# Altium schematic symbol library Touch Sense.SchLib: 1 symbol
Pins are listed as number, name and electrical type; pins without a type are passive.

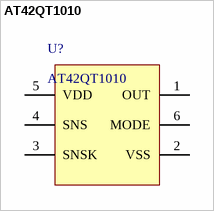
[diagram p0: symbol AT42QT1010]

## AT42QT1010
designator U?
AT42QT1010 SOT23-6; Package: SOT23
footprint SOT23-6 (SOT23, 6-Leads, Body 2.90x2.80mm, Pitch 0.95mm, IPC Medium Density)
pins: 1 OUT, 2 VSS, 3 SNSK, 4 SNS, 5 VDD, 6 MODE